# EAGLE library part MCP2150 (library C8051F300)
MCP2150 IrDA Standard Protocol Stack Controller Supporting DTE Applications
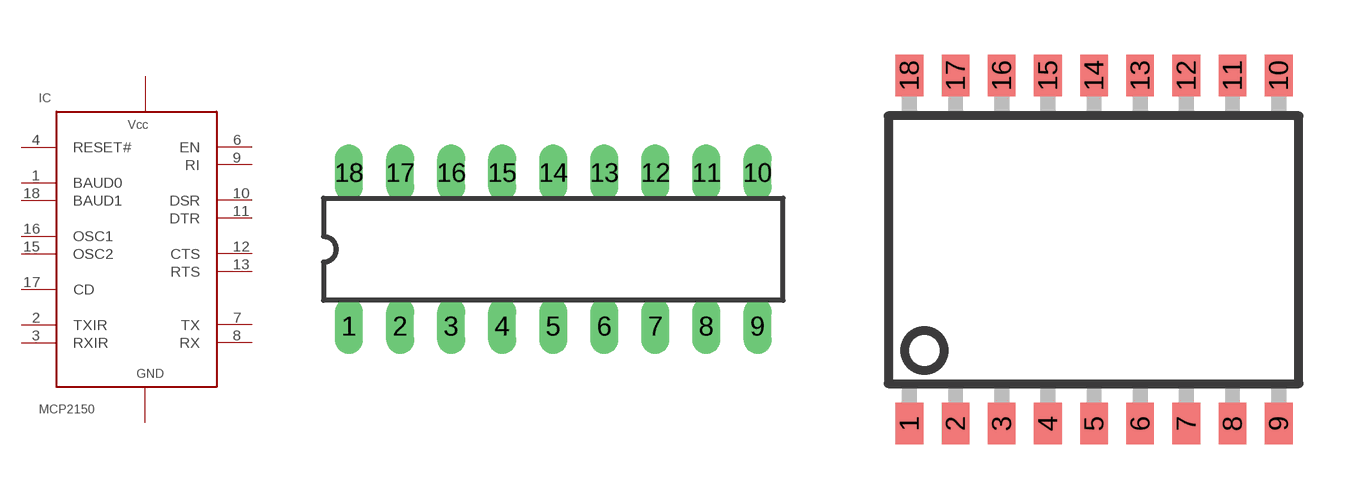
[diagram p3: symbol with the pads of DIL18; footprints DIL18, SOP-18W]

Designator prefix IC

## MCP2150P  [DIL18]
1  BAUD0  in
2  TXIR  out
3  RXIR  in
4  RESET#  in
5  GND  pwr
6  EN  in
7  TX  in
8  RX  out
9  RI  out
10  DSR  out
11  DTR  in
12  CTS  out
13  RTS  in
14  VCC  pwr
15  OSC2  out
16  OSC1  in
17  CD  out
18  BAUD1  in

## MCP2150SO  [SOP-18W]
Pads as for DIL18

## Footprint DIL18 (pad centres in mm)
drill 0.889 long: 1 -10.16,-3.81; 2 -7.62,-3.81; 3 -5.08,-3.81; 4 -2.54,-3.81; 5 0,-3.81; 6 2.54,-3.81; 7 5.08,-3.81; 8 7.62,-3.81; 9 10.16,-3.81; 10 10.16,3.81; 11 7.62,3.81; 12 5.08,3.81; 13 2.54,3.81; 14 0,3.81; 15 -2.54,3.81; 16 -5.08,3.81; 17 -7.62,3.81; 18 -10.16,3.81

## Footprint SOP-18W (pad centres in mm)
smd 0.762 x 1.143: 1 -5.08,-4.788; 2 -3.81,-4.788; 3 -2.54,-4.788; 4 -1.27,-4.788; 5 0,-4.788; 6 1.27,-4.788; 7 2.54,-4.788; 8 3.81,-4.788; 9 5.08,-4.788; 10 5.08,4.788; 11 3.81,4.788; 12 2.54,4.788; 13 1.27,4.788; 14 0,4.788; 15 -1.27,4.788; 16 -2.54,4.788; 17 -3.81,4.788; 18 -5.08,4.788